# Altium footprint library Footprint.PcbLib: 139 footprints (part 9 of 9)
Each footprint in its own frame and in the unit in brackets; x right, y up, seen from the top. Pads: shape width x height; smd on the part's side, far side on the other; paste and mask are expansions set on the pad; w line width, h text height; cw(c..) or ccw(c..) is an arc to the next point about the centre after c.
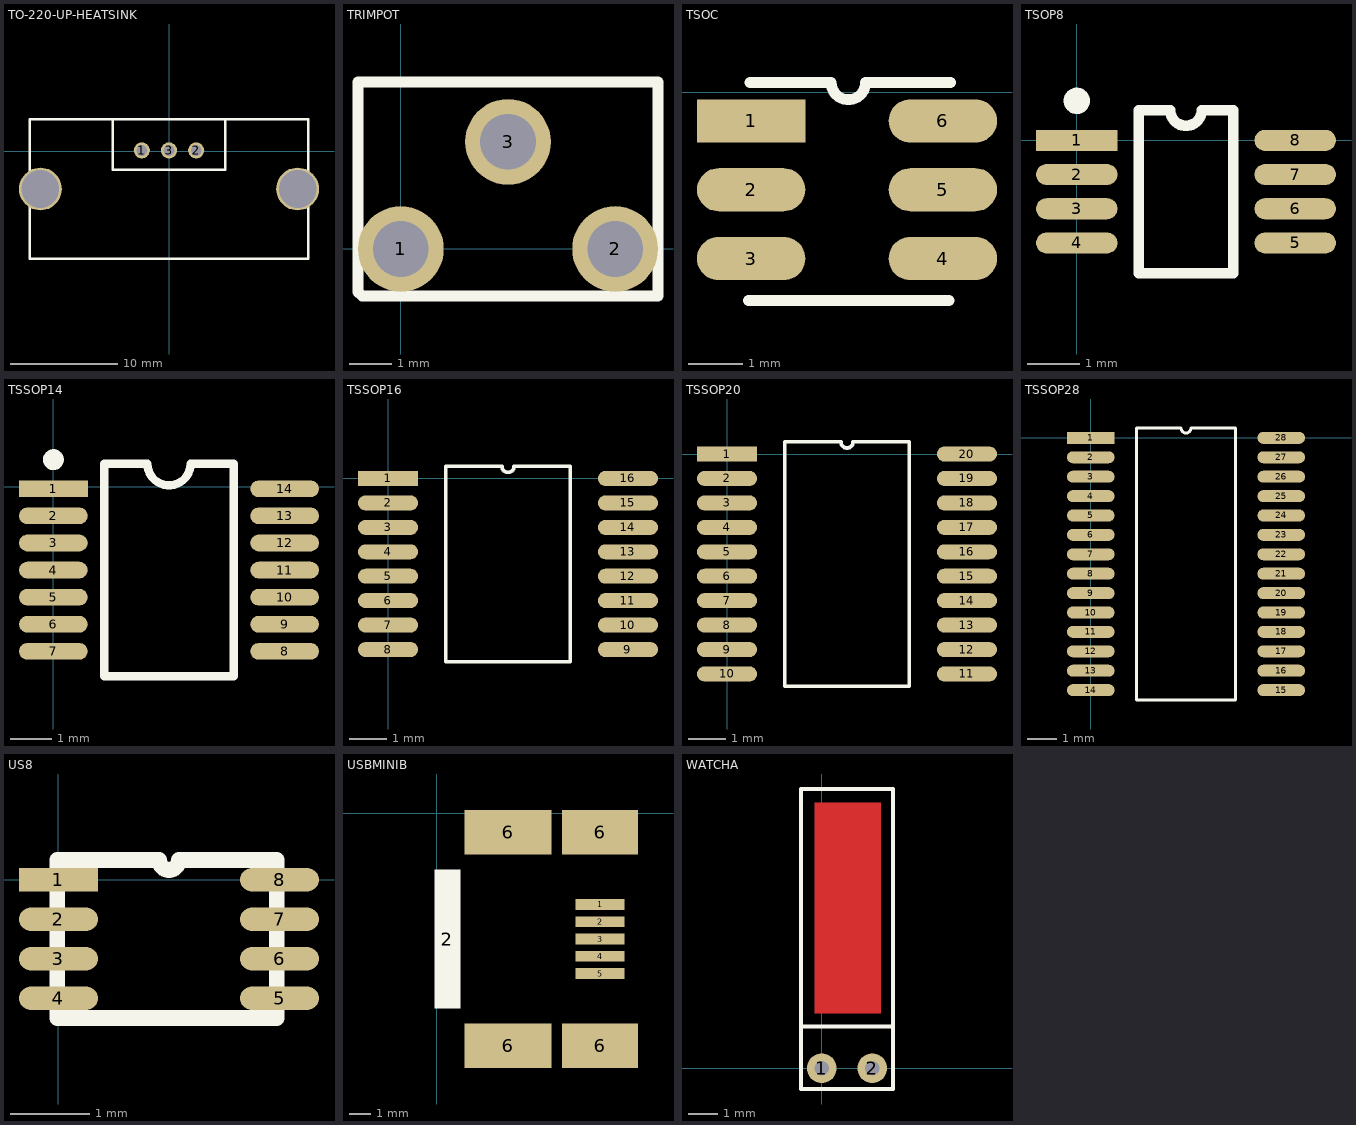
[diagram p8: the footprints below, top view; thin cyan lines are the x and y axes]

## TO-220-UP-HEATSINK [mm]
pads (5):
  round 1.5 hole 1: 1(-2.54,0.1) 2(2.54,0.1) 3(0,0.1)
  round 4 hole 3.5: ""(-12,-3.5) ""(12,-3.5)
TopOverlay:
  lines w0.254: -13,-10 -13,3 13,3 13,-10 -13,-10 ; -5.25,-1.7 -5.25,3 5.25,3 5.25,-1.7 -5.25,-1.7

## TRIMPOT [mm]
pads (3):
  round 2 hole 1.3: 1(0,0) 2(5,0) 3(2.5,2.5)
TopOverlay:
  lines w0.254: -1,-1 -1,3.9 6,3.9 6,-1.1 -0.8,-1.1 -0.9,-1.1 -1,-1

## TSOC [mm]
pads (6):
  rect 2x0.8 smd: 1(1.349,-0.533)
  oval 2x0.8 smd: 2(1.349,-1.803) 3(1.349,-3.073) 4(4.889,-3.073) 5(4.889,-1.803) 6(4.889,-0.533)
TopOverlay:
  lines w0.2: 1.3,-3.85 5,-3.85 ; 1.325,0.175 2.825,0.175 ; 2.826,0.177 ccw(c3.144,0.177) 3.461,0.177 ; 3.475,0.175 5.032,0.175

## TSOP8 [mm]
pads (8):
  rect 1.55x0.4 smd: 1(0,0)
  oval 1.55x0.4 smd: 2(0,-0.65) 3(0,-1.3) 4(0,-1.95) 5(4.15,-1.95) 6(4.15,-1.3) 7(4.15,-0.65) 8(4.15,0)
TopOverlay:
  circle w0.25: c0,0.75 r0.125
  lines w0.2: 1.175,-2.525 1.175,0.575 1.775,0.575 ccw(c2.075,0.575) 2.375,0.575 2.975,0.575 2.975,-2.525 1.175,-2.525

## TSSOP14 [mm]
pads (14):
  rect 1.65x0.4 smd: 1(0,-0.05)
  oval 1.65x0.4 smd: 2(0,-0.7) 3(0,-1.35) 4(0,-2) 5(0,-2.65) 6(0,-3.3) 7(0,-3.95) 8(5.55,-3.95) 9(5.55,-3.3) 10(5.55,-2.65) 11(5.55,-2) 12(5.55,-1.35) 13(5.55,-0.7) 14(5.55,-0.05)
TopOverlay:
  circle w0.25: c0,0.65 r0.125
  lines w0.2: 1.225,-4.55 4.325,-4.55 4.325,0.55 3.292,0.55 cw(c2.775,0.55) 2.258,0.55 1.225,0.55 1.225,-4.55

## TSSOP16 [mm]
pads (16):
  rect 1.6x0.4 smd: 1(0,0)
  oval 1.6x0.4 smd: 2(0,-0.65) 3(0,-1.3) 4(0,-1.95) 5(0,-2.6) 6(0,-3.25) 7(0,-3.9) 8(0,-4.55) 9(6.38,-4.55) 10(6.38,-3.9) 11(6.38,-3.25) 12(6.38,-2.6) 13(6.38,-1.95) 14(6.38,-1.3) 15(6.38,-0.65) 16(6.38,0)
TopOverlay:
  lines w0.1: 1.535,-4.875 4.845,-4.875 4.845,0.325 3.352,0.325 cw(c3.19,0.325) 3.027,0.325 1.535,0.325 1.535,-4.875

## TSSOP20 [mm]
pads (20):
  rect 1.6x0.4 smd: 1(0,0)
  oval 1.6x0.4 smd: 2(0,-0.65) 3(0,-1.3) 4(0,-1.95) 5(0,-2.6) 6(0,-3.25) 7(0,-3.9) 8(0,-4.55) 9(0,-5.2) 10(0,-5.85) 11(6.38,-5.85) 12(6.38,-5.2) 13(6.38,-4.55) 14(6.38,-3.9) 15(6.38,-3.25) 16(6.38,-2.6) 17(6.38,-1.95) 18(6.38,-1.3) 19(6.38,-0.65) 20(6.38,0)
TopOverlay:
  lines w0.1: 1.535,-6.175 4.845,-6.175 4.845,0.325 3.352,0.325 cw(c3.19,0.325) 3.027,0.325 1.535,0.325 1.535,-6.175

## TSSOP28 [mm]
pads (28):
  rect 1.6x0.4 smd: 1(0,0)
  oval 1.6x0.4 smd: 2(0,-0.65) 3(0,-1.3) 4(0,-1.95) 5(0,-2.6) 6(0,-3.25) 7(0,-3.9) 8(0,-4.55) 9(0,-5.2) 10(0,-5.85) 11(0,-6.5) 12(0,-7.15) 13(0,-7.8) 14(0,-8.45) 15(6.38,-8.45) 16(6.38,-7.8) 17(6.38,-7.15) 18(6.38,-6.5) 19(6.38,-5.85) 20(6.38,-5.2) 21(6.38,-4.55) 22(6.38,-3.9) 23(6.38,-3.25) 24(6.38,-2.6) 25(6.38,-1.95) 26(6.38,-1.3) 27(6.38,-0.65) 28(6.38,0)
TopOverlay:
  lines w0.1: 1.535,-8.775 1.535,0.325 3.027,0.325 ccw(c3.19,0.325) 3.352,0.325 4.845,0.325 4.845,-8.775 1.535,-8.775

## US8 [mm]
pads (8):
  rect 1x0.3 smd: 1(0,0)
  oval 1x0.3 smd: 2(0,-0.5) 3(0,-1) 4(0,-1.5) 5(2.8,-1.5) 6(2.8,-1) 7(2.8,-0.5) 8(2.8,0)
TopOverlay:
  lines w0.2: -0.015,-1.75 2.765,-1.75 2.765,0.25 1.525,0.25 cw(c1.4,0.25) 1.275,0.25 -0.015,0.25 -0.015,-1.75

## USBMINIB [mm]
pads (10):
  rect 2.25x0.5 smd mask+0: 1(7.55,-4.2) 2(7.55,-5) 3(7.55,-5.8) 4(7.55,-6.6) 5(7.55,-7.4)
  rect 1.2x6.4 on Top Overlay mask+0: 2(0.498,-5.8)
  rect 4x2.05 smd mask+0: 6(3.3,-10.725) 6(3.3,-0.875)
  rect 3.5x2.05 smd mask+0: 6(7.55,-10.725) 6(7.55,-0.875)

## WATCHA [mm]
pads (2):
  round 1 hole 0.5: 1(0,0) 2(1.7,0)
TopLayer:
  rectangle: -0.25,1.85 2,8.95
TopOverlay:
  lines w0.127: -0.7,1.4 -0.7,9.4 2.4,9.4 2.4,1.4 ; -0.7,1.4 2.4,1.4 ; -0.7,1.4 -0.7,-0.7 2.4,-0.7 2.4,1.4
TopSolder:
  rectangle: -0.4,1.75 2.15,9.1